# Altium schematic symbol library PDTD123ET.SchLib: 1 symbol
Pins are listed as number, name and electrical type; pins without a type are passive.

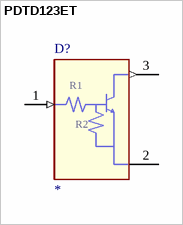
[diagram p0: symbol PDTD123ET]

## PDTD123ET
designator D?
Bipolar Transistor _BJT_ NPN - Pre-Biased 50V 500mA 250mW Surface Mount SOT-23-3; MF: Nexperia USA; MP: PDTC114EU,115; Package: SOT-323 Nexperia; Digi-Key_Part_Number: 1727-5132-1-ND; Digi-Key_Purchase_URL: https://www.digikey.com/product-detail/en/nexperia-usa-inc/PDTC114EU,115/1727-5132-1-ND/2531717?utm_source=snapeda&utm_medium=aggregator&utm_campaign=symbol; SnapEDA_Link: https://www.snapeda.com/parts/PDTC114EU%2C115/Nexperia%20USA%20Inc./view-part/1749359/?ref=snap; Value: *
footprint PDTD123ET
pins: 1 INPUT (in), 2 GND (power), 3 OUTPUT (out)
text: R1; R2